# Altium schematic symbol library MT6701.SchLib: 1 symbol
Pins are listed as number, name and electrical type; pins without a type are passive.

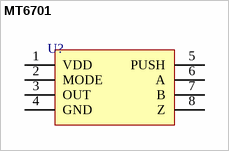
[diagram p0: symbol MT6701]

## MT6701
designator U?  (value not drawn)
pins: 1 VDD, 2 MODE, 3 OUT, 4 GND, 5 PUSH, 6 A, 7 B, 8 Z